# Altium schematic symbol library K78xx-1000R3.SchLib: 1 symbol
Pins are listed as number, name and electrical type; pins without a type are passive.

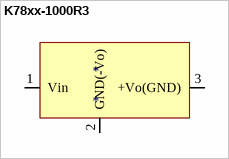
[diagram p0: symbol K78xx-1000R3]

## K78xx-1000R3
designator *
footprint K78xx-1000R3 (Footprint not found)
pins: 1 Vin, 2 GND(-Vo), 3 +Vo(GND)